# Altium footprint library Blueberry_sound.PcbLib: 53 footprints (part 3 of 4)
Each footprint in its own frame and in the unit in brackets; x right, y up, seen from the top. Pads: shape width x height; smd on the part's side, far side on the other; paste and mask are expansions set on the pad; w line width, h text height; cw(c..) or ccw(c..) is an arc to the next point about the centre after c.
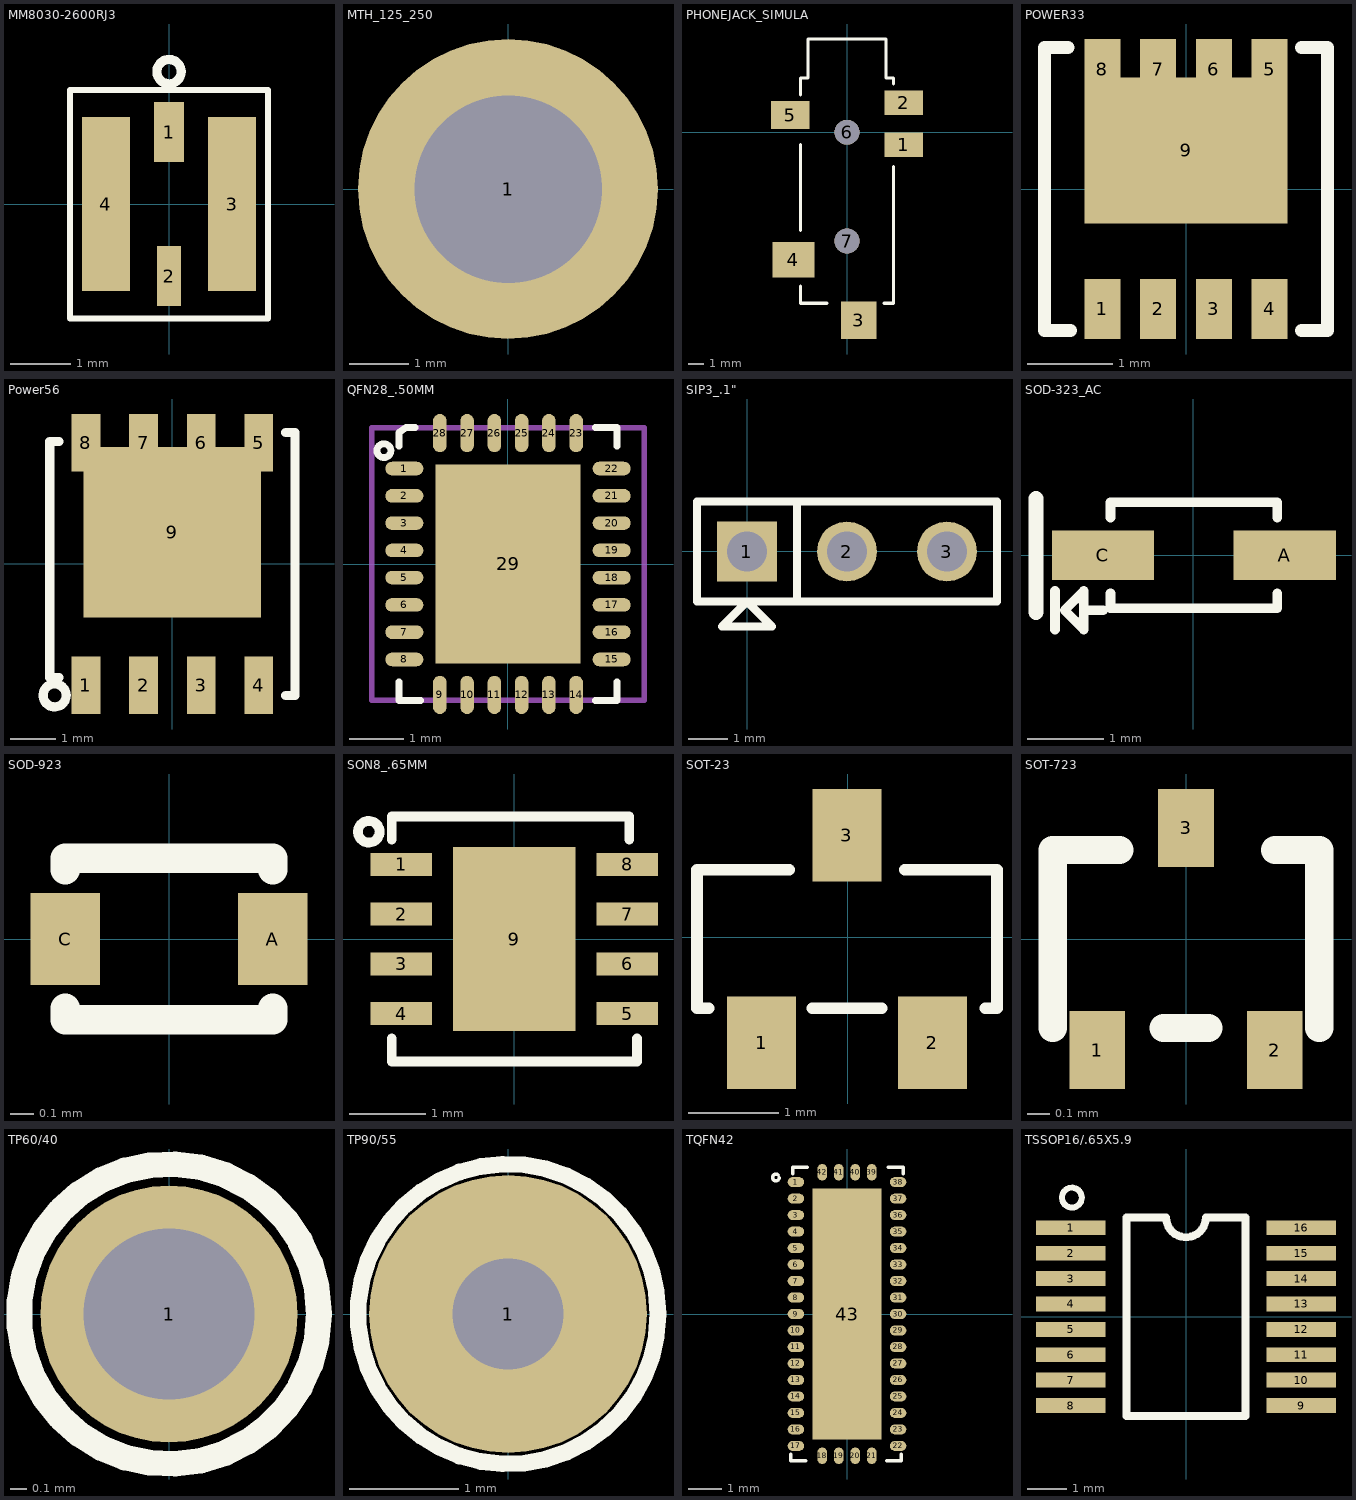
[diagram p2: the footprints below, top view; thin cyan lines are the x and y axes]

## MM8030-2600RJ3 [mm]
pads (4):
  rect 0.5x1 smd: 1(0,1.2)
  rect 0.4x1 smd: 2(0,-1.2)
  rect 0.8x2.9 smd: 3(1.05,0) 4(-1.05,0)
Top Overlay:
  circle w0.152: c0,2.21 r0.203
  lines w0.102: -1.651,-1.905 -1.651,1.905 1.651,1.905 1.651,-1.905 -1.651,-1.905

## MTH_125_250 [mm]
pads (1):
  round 5.08 hole 3.175: 1(0,0)

## PHONEJACK_SIMULA [mm]
pads (7):
  rect 2.475x1.6 smd: 1(3.662,-0.8) 2(3.662,1.9)
  rect 2.3x2.4 smd: 3(0.75,-12.1)
  rect 2.7x2.3 smd: 4(-3.45,-8.2)
  rect 2.475x1.8 smd: 5(-3.662,1.1)
  round 1.6 hole 1.6: 6(0,0) 7(0,-7)
Top Overlay:
  lines w0.203: -3,-9.9 -3,-11 -1.3,-11 ; -3,-6.3 -3,-0.8 ; -3,2.4 -3,3.5 -2.5,3.5 -2.5,6 2.5,6 2.5,3.5 3,3.5 3,3.1 ; 2.4,-11 3,-11 3,-2.2

## POWER33 [mm]
pads (9):
  rect 0.42x0.7 smd: 1(-0.975,-1.4) 2(-0.325,-1.4) 3(0.325,-1.4) 4(0.975,-1.4) 5(0.975,1.4) 6(0.325,1.4) 7(-0.325,1.4) 8(-0.975,1.4)
  rect 2.37x1.7 smd: 9(0,0.45)
Top Overlay:
  lines w0.152: -1.375,1.65 -1.65,1.65 -1.65,-1.65 -1.35,-1.65 ; 1.35,-1.65 1.65,-1.65 1.65,1.65 1.35,1.65

## Power56 [mm]
pads (9):
  rect 0.635x1.27 smd: 1(-1.901,-2.679) 2(-0.631,-2.679) 3(0.639,-2.679) 4(1.909,-2.679) 5(1.909,2.661) 6(0.639,2.661) 7(-0.631,2.661) 8(-1.901,2.661)
  rect 3.91x3.75 smd: 9(0.004,0.691)
Top Overlay:
  circle w0.203: c-2.59,-2.903 r0.254
  lines w0.203: -2.496,-2.509 -2.696,-2.509 -2.696,2.691 -2.496,2.691 ; 2.504,-2.909 2.704,-2.909 2.704,2.891 2.504,2.891

## QFN28_.50MM [mm]
pads (29):
  oval 0.7x0.25 smd: 1(-1.9,1.75) 2(-1.9,1.25) 3(-1.9,0.75) 4(-1.9,0.25) 5(-1.9,-0.25) 6(-1.9,-0.75) 7(-1.9,-1.25) 8(-1.9,-1.75) 15(1.9,-1.75) 16(1.9,-1.25) 17(1.9,-0.75) 18(1.9,-0.25) 19(1.9,0.25) 20(1.9,0.75) 21(1.9,1.25) 22(1.9,1.75)
  oval 0.25x0.7 smd: 9(-1.25,-2.4) 10(-0.75,-2.4) 11(-0.25,-2.4) 12(0.25,-2.4) 13(0.75,-2.4) 14(1.25,-2.4) 23(1.25,2.4) 24(0.75,2.4) 25(0.25,2.4) 26(-0.25,2.4) 27(-0.75,2.4) 28(-1.25,2.4)
  rect 2.65x3.65 smd: 29(0,0)
Top Overlay:
  circle w0.127: c-2.275,2.078 r0.127
  lines w0.127: -2,-2.159 -2,-2.5 -1.6,-2.5 ; -2,2.159 -2,2.413 -1.873,2.5 -1.7,2.5 ; 1.6,-2.5 2,-2.5 2,-2.159 ; 1.6,2.5 2,2.5 2,2.159
Mechanical 4:
  lines w0.102: -2.5,-2.5 2.5,-2.5 2.5,2.5 -2.5,2.5 -2.5,-2.5

## SIP3_.1" [mil]
pads (3):
  rect 60x60 hole 40: 1(-0.46,-0.46)
  round 60 hole 40: 2(99.54,-0.46) 3(199.54,-0.46)
Top Overlay:
  lines w8: 49.54,-50.46 49.54,49.54 ; -50.46,-50.46 249.54,-50.46 249.54,49.54 -50.46,49.54 -50.46,-50.46 ; -25.46,-75.46 -0.46,-50.46 24.54,-75.46 -25.46,-75.46

## SOD-323_AC [mm]
pads (2):
  rect 1.35x0.65 smd: A(1.211,-0.001) C(-1.189,-0.001)
Top Overlay:
  lines w0.127: -1.821,-0.979 -1.821,-0.471 ; -1.44,-0.725 -1.186,-0.725 ; -1.089,-0.501 -1.089,-0.701 1.111,-0.701 1.111,-0.501 ; -1.089,0.499 -1.089,0.699 1.111,0.699 1.111,0.499 ; -1.694,-0.725 -1.44,-0.471 -1.44,-0.979 -1.694,-0.725
  lines w0.203: -2.071,-0.751 -2.071,0.749

## SOD-923 [mm]
pads (2):
  rect 0.3x0.4 smd: A(0.45,0) C(-0.45,0)
Top Overlay:
  lines w0.127: -0.45,-0.3 -0.45,-0.35 0.45,-0.35 0.45,-0.3 ; -0.45,0.3 -0.45,0.35 0.45,0.35 0.45,0.3

## SON8_.65MM [mm]
pads (9):
  rect 0.8x0.3 smd: 1(-1.475,0.975) 2(-1.475,0.325) 3(-1.475,-0.325) 4(-1.475,-0.975) 5(1.475,-0.975) 6(1.475,-0.325) 7(1.475,0.325) 8(1.475,0.975)
  rect 1.6x2.4 smd: 9(0,0)
Top Overlay:
  circle w0.127: c-1.9,1.4 r0.141
  lines w0.127: -1.6,-1.3 -1.6,-1.6 1.6,-1.6 1.6,-1.3 ; -1.6,1.3 -1.6,1.6 1.5,1.6 1.5,1.3

## SOT-23 [mil]
pads (3):
  rect 30x40 smd: 1(-37.3,-45.66) 2(36.7,-45.66) 3(-0.3,44.34)
Top Overlay:
  lines w5: -65.3,-30.66 -60.3,-30.66 -65.3,-30.66 ; -65.3,-30.66 -65.3,29.34 ; -65.3,-30.66 -65.3,29.34 ; -65.3,29.34 -25.3,29.34 -65.3,29.34 ; 64.7,-30.66 59.7,-30.66 64.7,-30.66 ; 64.7,-30.66 64.7,29.34 ; 64.7,-30.66 64.7,29.34 ; 64.7,29.34 24.7,29.34 64.7,29.34 ; -15.3,-30.66 14.7,-30.66 -15.3,-30.66

## SOT-723 [mm]
pads (3):
  rect 0.25x0.35 smd: 1(-0.4,-0.5) 2(0.4,-0.5) 3(0,0.5)
Top Overlay:
  lines w0.127: -0.6,-0.4 -0.6,0.4 -0.3,0.4 ; -0.1,-0.4 0.1,-0.4 ; 0.4,0.4 0.6,0.4 0.6,-0.4

## TP60/40 [mil]
pads (1):
  round 60 hole 40: 1(0,0)
Top Overlay:
  circle w6: c0,0 r35

## TP90/55 [mil]
pads (1):
  round 100 hole 40: 1(0,0)
Top Overlay:
  circle w6: c0,0 r54

## TQFN42 [mm]
pads (43):
  oval 0.5x0.3 smd: 1(-1.55,4) 2(-1.55,3.5) 3(-1.55,3) 4(-1.55,2.5) 5(-1.55,2) 6(-1.55,1.5) 7(-1.55,1) 8(-1.55,0.5) 9(-1.55,0) 10(-1.55,-0.5) 11(-1.55,-1) 12(-1.55,-1.5) 13(-1.55,-2) 14(-1.55,-2.5) 15(-1.55,-3) 16(-1.55,-3.5) 17(-1.55,-4) 22(1.55,-4) 23(1.55,-3.5) 24(1.55,-3) 25(1.55,-2.5) 26(1.55,-2) 27(1.55,-1.5) 28(1.55,-1) 29(1.55,-0.5) 30(1.55,0) 31(1.55,0.5) 32(1.55,1) 33(1.55,1.5) 34(1.55,2) 35(1.55,2.5) 36(1.55,3) 37(1.55,3.5) 38(1.55,4)
  oval 0.3x0.5 smd: 18(-0.75,-4.3) 19(-0.25,-4.3) 20(0.25,-4.3) 21(0.75,-4.3) 39(0.75,4.3) 40(0.25,4.3) 41(-0.25,4.3) 42(-0.75,4.3)
  rect 2.1x7.6 smd: 43(0,0)
Top Overlay:
  lines w0.102: -2.091,4.215 ccw(c-2.159,4.14) -2.057,4.14 ; -1.702,-4.45 -1.702,-4.25 ; -1.695,-4.45 -1.245,-4.45 ; -1.65,4.25 -1.65,4.45 -1.2,4.45 ; 1.2,-4.45 1.65,-4.45 1.65,-4.25 ; 1.245,4.45 1.695,4.45 ; 1.702,4.25 1.702,4.45

## TSSOP16/.65X5.9 [mm]
pads (16):
  rect 1.778x0.381 smd: 1(-2.95,2.275) 2(-2.95,1.625) 3(-2.95,0.975) 4(-2.95,0.325) 5(-2.95,-0.325) 6(-2.95,-0.975) 7(-2.95,-1.625) 8(-2.95,-2.275) 9(2.95,-2.275) 10(2.95,-1.625) 11(2.95,-0.975) 12(2.95,-0.325) 13(2.95,0.325) 14(2.95,0.975) 15(2.95,1.625) 16(2.95,2.275)
Top Overlay:
  circle w0.152: c-2.921,3.048 r0.254
  lines w0.203: -1.524,-2.54 -1.524,2.54 -0.508,2.54 ccw(c0,2.54) 0.508,2.54 1.524,2.54 1.524,-2.54 -1.524,-2.54